# Altium schematic symbol library GRM155R70J104KA01D.SchLib: 1 symbol
Pins are listed as number, name and electrical type; pins without a type are passive.

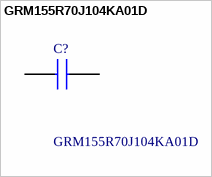
[diagram p0: symbol GRM155R70J104KA01D]

## GRM155R70J104KA01D
designator C?
Capacitor MLCC GRM 0402 100nF 6.3V X7R Murata 0402 GRM 100nF Ceramic Multilayer Capacitor, 6.3 V dc, +125degC, X7R Dielectric,  /-10% SMD; Manufacturer_Name: Murata Electronics; Geometry.Height: 0.55mm; Manufacturer_Part_Number: GRM155R70J104KA01D; Mouser Part Number: 81-GRM155R70J104KA1D; Mouser Price/Stock: https://www.mouser.co.uk/ProductDetail/Murata-Electronics/GRM155R70J104KA01D?qs=y02iAgv9n61EgJSmMyZ7gQ%3D%3D; Arrow Part Number: GRM155R70J104KA01D; Arrow Price/Stock: https://www.arrow.com/en/products/grm155r70j104ka01d/murata-manufacturing?region=nac; Datasheet Link: http://www.murata.com/~/media/webrenewal/support/library/catalog/products/capacitor/mlcc/c02e.pdf
footprint CAPC1005X55N
pins: 1, 2